# Altium schematic symbol library Schlib.Autolabor.SchLib: 12 symbols
Pins are listed as number, name and electrical type; pins without a type are passive.

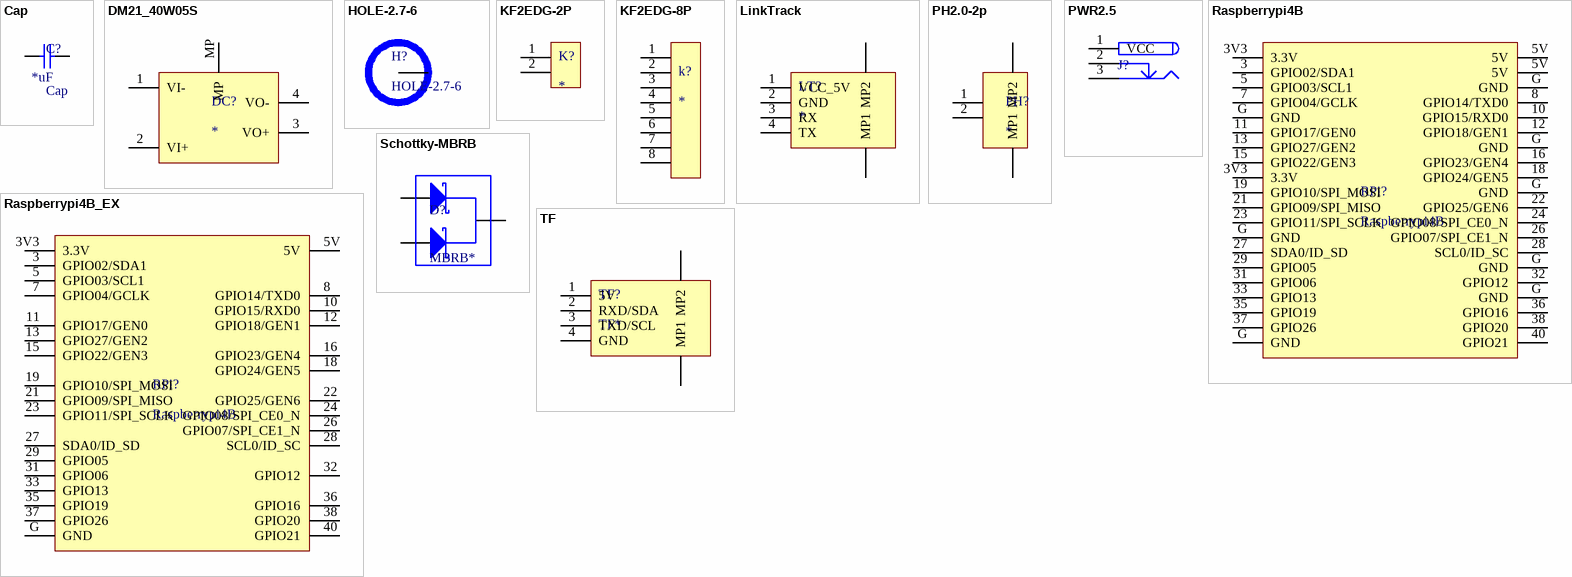
[diagram p0: symbols Cap to TF]

## Cap
designator C?  value *uF
Capacitor; Published: 8-Jun-2000; LatestRevisionDate: 17-Jul-2002; LatestRevisionNote: Re-released for DXP Platform.; PackageReference: RAD-0.3; Publisher: Altium Limited; PackageDescription: Radial Cap, Thru-Hole; 2 Leads; 0.3 in Pin Spacing
simulation model CAP (Capacitor)
signal-integrity model Cap
pins: 1, 2

## DM21_40W05S
designator DC?
DM21_40W05S
footprint DM21_40W05S
pins: 1 VI-, 2 VI+, 3 VO+, 4 VO-, MP

## HOLE-2.7-6
designator H?
pins: 1

## KF2EDG-2P
designator K?
footprint KF2EDG-3.81-2P
pins: 1, 2

## KF2EDG-8P
designator k?
footprint KF2EDG-3.81-8P
pins: 1, 2, 3, 4, 5, 6, 7, 8

## LinkTrack
designator LT?
footprint GH1.25-S-4P
footprint GH1.25-S-4P
pins: 1 VCC_5V, 2 GND, 3 RX, 4 TX, MP1, MP2

## PH2.0-2p
designator PH?
footprint KF2EDG-3.81-2P
footprint PH2.0-LIE-2P
pins: 1 (power), 2, MP1, MP2

## PWR2.5
designator J?
Low Voltage Power Supply Connector; Published: 17-Dec-2003; DatasheetDocument: 09-May-2002; Publisher: Altium Limited; ComponentLink1Description: Manufacturer Link; ComponentLink1URL: http://domino.kycon.com/internet/Products.html
footprint KLD-0202 (DC Power Jack, 2.5mm, KLD Series, PCB Mount)
signal-integrity model Connector
pins: 1 VCC, 2, 3

## Raspberrypi4B
designator RPi?
footprint RPi-40p
pins: 3 GPIO02/SDA1, 3V3 3.3V, 3V3 3.3V (power), 5 GPIO03/SCL1, 5V (power), 5V (power), 7 GPIO04/GCLK, 8 GPIO14/TXD0, 10 GPIO15/RXD0, 11 GPIO17/GEN0, 12 GPIO18/GEN1, 13 GPIO27/GEN2, 15 GPIO22/GEN3, 16 GPIO23/GEN4, 18 GPIO24/GEN5, 19 GPIO10/SPI_MOSI, 21 GPIO09/SPI_MISO, 22 GPIO25/GEN6, 23 GPIO11/SPI_SCLK, 24 GPIO08/SPI_CE0_N, 26 GPIO07/SPI_CE1_N, 27 SDA0/ID_SD, 28 SCL0/ID_SC, 29 GPIO05, 31 GPIO06, 32 GPIO12, 33 GPIO13, 35 GPIO19, 36 GPIO16, 37 GPIO26, 38 GPIO20, 40 GPIO21, G GND (power), G GND, G GND, G GND, G GND (power), G GND (power), G GND, G GND

## Raspberrypi4B_EX
designator RPi?, comment Raspberrypi4B
footprint RPi-40p
pins: 3 GPIO02/SDA1, 3V3 3.3V, 5 GPIO03/SCL1, 5V (power), 7 GPIO04/GCLK, 8 GPIO14/TXD0, 10 GPIO15/RXD0, 11 GPIO17/GEN0, 12 GPIO18/GEN1, 13 GPIO27/GEN2, 15 GPIO22/GEN3, 16 GPIO23/GEN4, 18 GPIO24/GEN5, 19 GPIO10/SPI_MOSI, 21 GPIO09/SPI_MISO, 22 GPIO25/GEN6, 23 GPIO11/SPI_SCLK, 24 GPIO08/SPI_CE0_N, 26 GPIO07/SPI_CE1_N, 27 SDA0/ID_SD, 28 SCL0/ID_SC, 29 GPIO05, 31 GPIO06, 32 GPIO12, 33 GPIO13, 35 GPIO19, 36 GPIO16, 37 GPIO26, 38 GPIO20, 40 GPIO21, G GND

## Schottky-MBRB
designator D?, comment MBRB*
Schottky Diode; Published: 8-Jun-2000; LatestRevisionDate: 17-Jul-2002; LatestRevisionNote: Re-released for DXP Platform.; PackageReference: SMB; Publisher: Altium Limited; PackageDescription: DO-214-AA/SMB; 2 C-Bend Leads; Body 5.3 x 3.6 mm, inc. leads (LxW); Code_JEDEC: DO-214-AA
footprint SMB (DO-214-AA/SMB; 2 C-Bend Leads; Body 5.3 x 3.6 mm, inc. leads (LxW))
simulation model SKYDIODE (Diode)
signal-integrity model D Schottky
pins: 1 A, 2 K, 3 A

## TF
designator TF?, comment TF*
TF
footprint GH1.25-S-4P
footprint GH1.25-S-4P
footprint GH1.25-S-4P
pins: 1 5V (power), 2 RXD/SDA, 3 TXD/SCL, 4 GND (power), MP1, MP2